# Altium integrated library Maxim Interface Display Driver.IntLib: 28 symbols
Pins are listed as number, name and electrical type; pins without a type are passive.

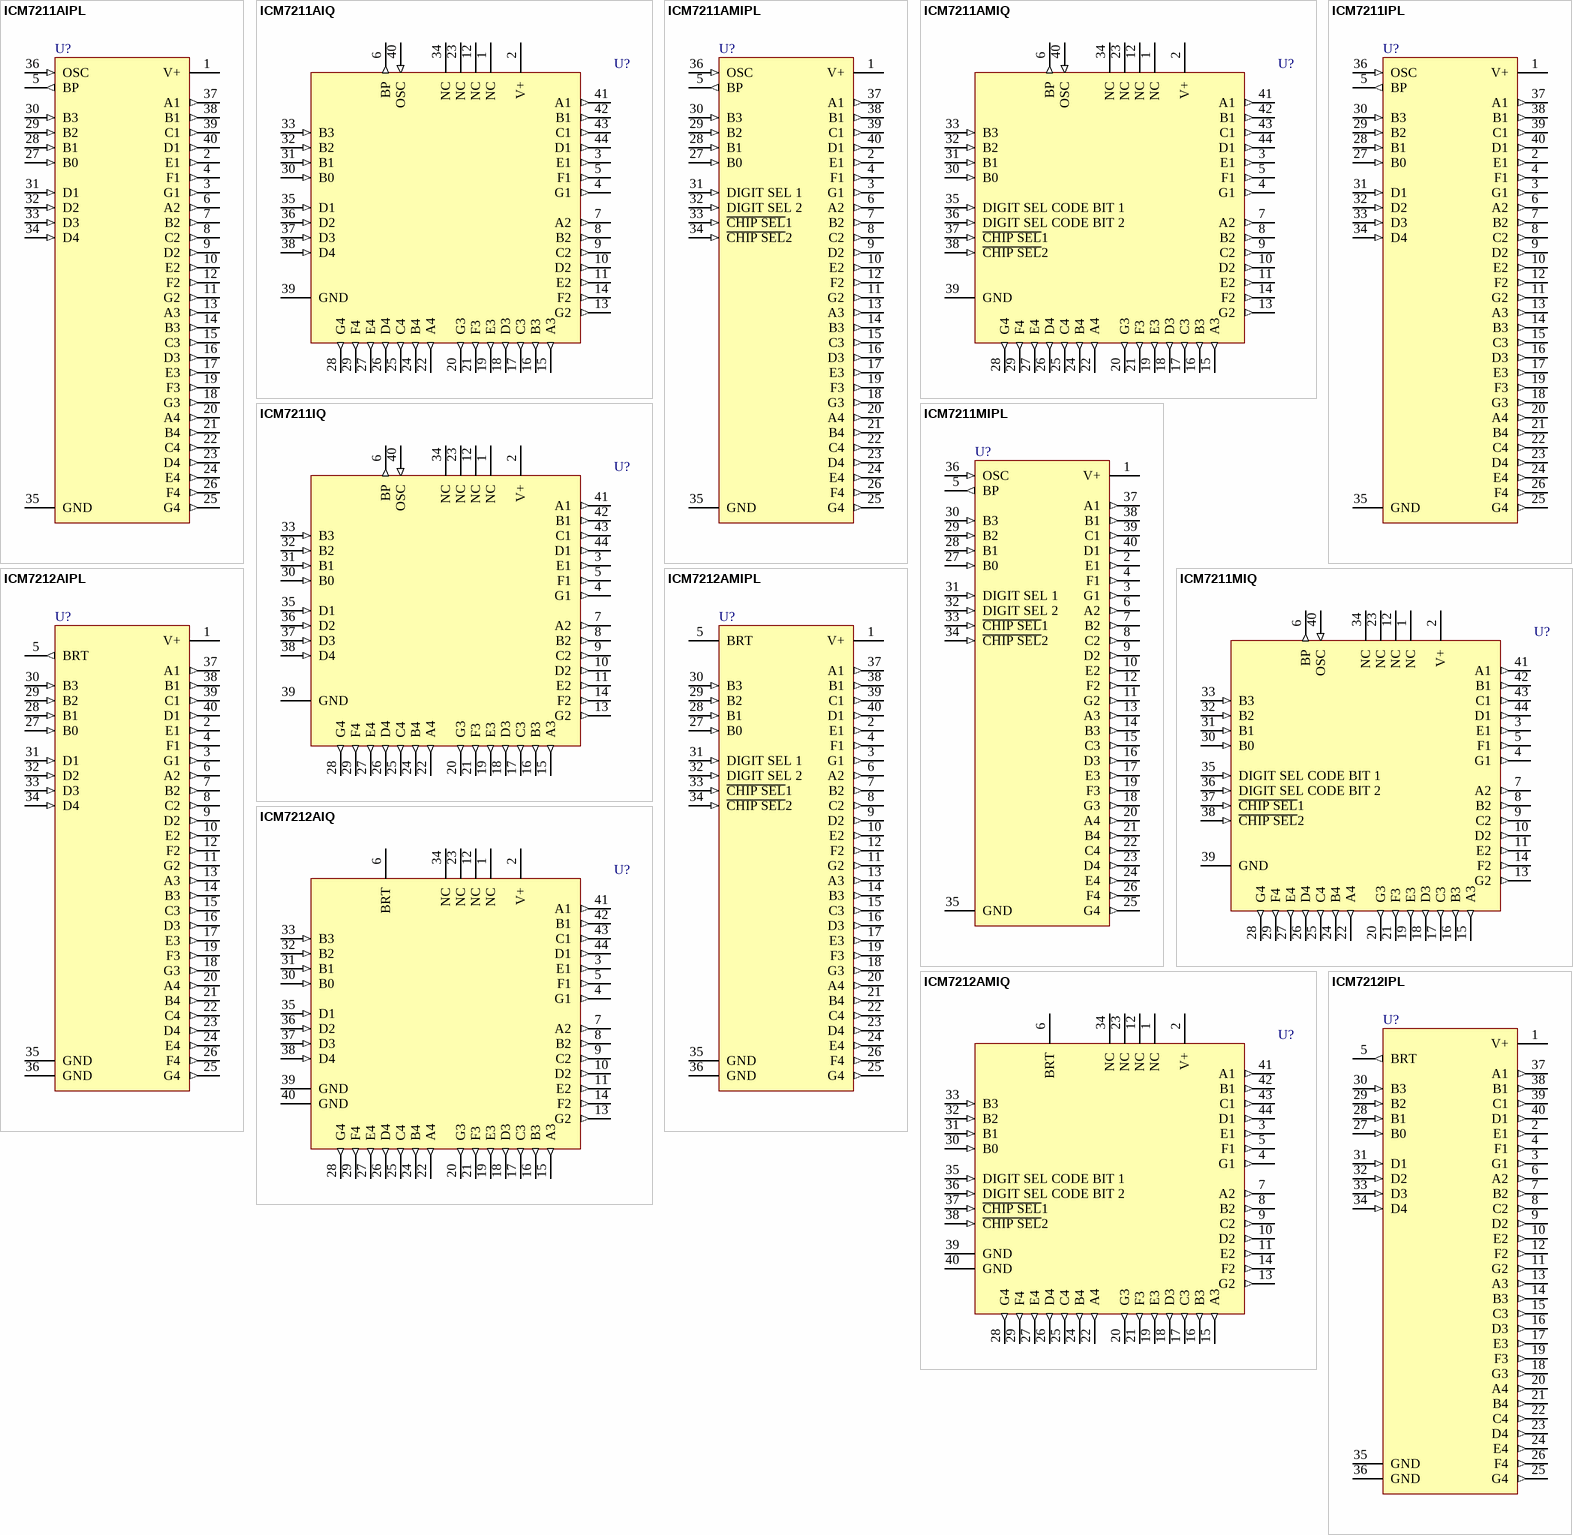
[diagram p0: symbols ICM7211AIPL to ICM7212IPL]

## ICM7211AIPL
designator U?
Four Digit Display Decoder/Driver; Published: 16-Jan-2001; LatestRevisionDate: 29-May-2009; LatestRevisionNote: Component Body Added.; DatasheetVersion: Nov-1989; PackageVersion: RevA, 21-0044; PackageReference: PL40; Publisher: Altium Limited; PackageDescription: DIP, 40-Pin, Row Spacing 15.24 mm, Pitch 2.54 mm; ComponentLink1Description: Manufacturer Link; ComponentLink1URL: http://www.maxim-ic.com/; ComponentLink2Description: Datasheet; ComponentLink2URL: http://pdfserv.maxim-ic.com/en/ds/ICM7211-ICM7212.pdf
footprint PL40 (DIP, 40-Leads, Row Spacing 15.24mm, Pitch 2.54mm, Body 52.08x13.98mm)
3D model PL40 (DIP, 40-Pin, Row Spacing 15.24 mm, Pitch 2.54 mm)
pins: 1 V+ (power), 2 E1 (out), 3 G1 (out), 4 F1 (out), 5 BP (out), 6 A2 (out), 7 B2 (out), 8 C2 (out), 9 D2 (out), 10 E2 (out), 11 G2 (out), 12 F2 (out), 13 A3 (out), 14 B3 (out), 15 C3 (out), 16 D3 (out), 17 E3 (out), 18 G3 (out), 19 F3 (out), 20 A4 (out), 21 B4 (out), 22 C4 (out), 23 D4 (out), 24 E4 (out), 25 G4 (out), 26 F4 (out), 27 B0 (in), 28 B1 (in), 29 B2 (in), 30 B3 (in), 31 D1 (in), 32 D2 (in), 33 D3 (in), 34 D4 (in), 35 GND (power), 36 OSC (in), 37 A1 (out), 38 B1 (out), 39 C1 (out), 40 D1 (out)

## ICM7211AIQ
designator U?
Four Digit Display Decoder/Driver; Published: 16-Jan-2001; LatestRevisionDate: 13-Apr-2006; LatestRevisionNote: IPC-7351 Footprint Added.; DatasheetVersion: Nov-1989; PackageReference: PLCC44; Publisher: Altium Limited; PackageDescription: 44-Pin Leaded Chip Carrier 1.27 mm Pitch; Code_IPC: PLCC-44; ComponentLink1Description: Manufacturer Link; ComponentLink1URL: http://www.maxim-ic.com/; ComponentLink2Description: Datasheet; ComponentLink2URL: http://pdfserv.maxim-ic.com/en/ds/ICM7211-ICM7212.pdf
footprint PLCC44_N (Leaded Chip Carrier, 44-Leads, Body 16.6x16.6mm, Pitch 1.27mm, IPC Medium Density)
footprint PLCC44_L (Leaded Chip Carrier, 44-Leads, Body 16.6x16.6mm, Pitch 1.27mm, IPC High Density)
footprint PLCC44_M (Leaded Chip Carrier, 44-Leads, Body 16.6x16.6mm, Pitch 1.27mm, IPC Low Density)
3D model ICM7211-PLCC44 (44-Pin Leaded Chip Carrier 1.27 mm Pitch)
pins: 1 NC, 2 V+ (power), 3 E1 (out), 4 G1 (out), 5 F1 (out), 6 BP (out), 7 A2 (out), 8 B2 (out), 9 C2 (out), 10 D2 (out), 11 E2 (out), 12 NC, 13 G2 (out), 14 F2 (out), 15 A3 (out), 16 B3 (out), 17 C3 (out), 18 D3 (out), 19 E3 (out), 20 G3 (out), 21 F3 (out), 22 A4 (out), 23 NC, 24 B4 (out), 25 C4 (out), 26 D4 (out), 27 E4 (out), 28 G4 (out), 29 F4 (out), 30 B0 (in), 31 B1 (in), 32 B2 (in), 33 B3 (in), 34 NC, 35 D1 (in), 36 D2 (in), 37 D3 (in), 38 D4 (in), 39 GND (power), 40 OSC (in), 41 A1 (out), 42 B1 (out), 43 C1 (out), 44 D1 (out)

## ICM7211AMIPL
designator U?
Four Digit Display Decoder/Driver; Published: 16-Jan-2001; LatestRevisionDate: 29-May-2009; LatestRevisionNote: Component Body Added.; DatasheetVersion: Nov-1989; PackageVersion: RevA, 21-0044; PackageReference: PL40; Publisher: Altium Limited; PackageDescription: DIP, 40-Pin, Row Spacing 15.24 mm, Pitch 2.54 mm; ComponentLink1Description: Manufacturer Link; ComponentLink1URL: http://www.maxim-ic.com/; ComponentLink2Description: Datasheet; ComponentLink2URL: http://pdfserv.maxim-ic.com/en/ds/ICM7211-ICM7212.pdf
footprint PL40 (DIP, 40-Leads, Row Spacing 15.24mm, Pitch 2.54mm, Body 52.08x13.98mm)
3D model PL40 (DIP, 40-Pin, Row Spacing 15.24 mm, Pitch 2.54 mm)
pins: 1 V+ (power), 2 E1 (out), 3 G1 (out), 4 F1 (out), 5 BP (out), 6 A2 (out), 7 B2 (out), 8 C2 (out), 9 D2 (out), 10 E2 (out), 11 G2 (out), 12 F2 (out), 13 A3 (out), 14 B3 (out), 15 C3 (out), 16 D3 (out), 17 E3 (out), 18 G3 (out), 19 F3 (out), 20 A4 (out), 21 B4 (out), 22 C4 (out), 23 D4 (out), 24 E4 (out), 25 G4 (out), 26 F4 (out), 27 B0 (in), 28 B1 (in), 29 B2 (in), 30 B3 (in), 31 DIGIT SEL 1 (in), 32 DIGIT SEL 2 (in), 33 ~{CHIP SEL}1 (in), 34 ~{CHIP SEL}2 (in), 35 GND (power), 36 OSC (in), 37 A1 (out), 38 B1 (out), 39 C1 (out), 40 D1 (out)

## ICM7211AMIQ
designator U?
Four Digit Display Decoder/Driver; Published: 16-Jan-2001; LatestRevisionDate: 13-Apr-2006; LatestRevisionNote: IPC-7351 Footprint Added.; DatasheetVersion: Nov-1989; PackageReference: PLCC44; Publisher: Altium Limited; PackageDescription: 44-Pin Leaded Chip Carrier 1.27 mm Pitch; Code_IPC: PLCC-44; ComponentLink1Description: Manufacturer Link; ComponentLink1URL: http://www.maxim-ic.com/; ComponentLink2Description: Datasheet; ComponentLink2URL: http://pdfserv.maxim-ic.com/en/ds/ICM7211-ICM7212.pdf
footprint PLCC44_N (Leaded Chip Carrier, 44-Leads, Body 16.6x16.6mm, Pitch 1.27mm, IPC Medium Density)
footprint PLCC44_L (Leaded Chip Carrier, 44-Leads, Body 16.6x16.6mm, Pitch 1.27mm, IPC High Density)
footprint PLCC44_M (Leaded Chip Carrier, 44-Leads, Body 16.6x16.6mm, Pitch 1.27mm, IPC Low Density)
3D model ICM7211-PLCC44 (44-Pin Leaded Chip Carrier 1.27 mm Pitch)
pins: 1 NC, 2 V+ (power), 3 E1 (out), 4 G1 (out), 5 F1 (out), 6 BP (out), 7 A2 (out), 8 B2 (out), 9 C2 (out), 10 D2 (out), 11 E2 (out), 12 NC, 13 G2 (out), 14 F2 (out), 15 A3 (out), 16 B3 (out), 17 C3 (out), 18 D3 (out), 19 E3 (out), 20 G3 (out), 21 F3 (out), 22 A4 (out), 23 NC, 24 B4 (out), 25 C4 (out), 26 D4 (out), 27 E4 (out), 28 G4 (out), 29 F4 (out), 30 B0 (in), 31 B1 (in), 32 B2 (in), 33 B3 (in), 34 NC, 35 DIGIT SEL CODE BIT 1 (in), 36 DIGIT SEL CODE BIT 2 (in), 37 ~{CHIP SEL}1 (in), 38 ~{CHIP SEL}2 (in), 39 GND (power), 40 OSC (in), 41 A1 (out), 42 B1 (out), 43 C1 (out), 44 D1 (out)

## ICM7211IPL
designator U?
Four Digit Display Decoder/Driver; Published: 16-Jan-2001; LatestRevisionDate: 29-May-2009; LatestRevisionNote: Component Body Added.; DatasheetVersion: Nov-1989; PackageVersion: RevA, 21-0044; PackageReference: PL40; Publisher: Altium Limited; PackageDescription: DIP, 40-Pin, Row Spacing 15.24 mm, Pitch 2.54 mm; ComponentLink1Description: Manufacturer Link; ComponentLink1URL: http://www.maxim-ic.com/; ComponentLink2Description: Datasheet; ComponentLink2URL: http://pdfserv.maxim-ic.com/en/ds/ICM7211-ICM7212.pdf
footprint PL40 (DIP, 40-Leads, Row Spacing 15.24mm, Pitch 2.54mm, Body 52.08x13.98mm)
3D model PL40 (DIP, 40-Pin, Row Spacing 15.24 mm, Pitch 2.54 mm)
pins: 1 V+ (power), 2 E1 (out), 3 G1 (out), 4 F1 (out), 5 BP (out), 6 A2 (out), 7 B2 (out), 8 C2 (out), 9 D2 (out), 10 E2 (out), 11 G2 (out), 12 F2 (out), 13 A3 (out), 14 B3 (out), 15 C3 (out), 16 D3 (out), 17 E3 (out), 18 G3 (out), 19 F3 (out), 20 A4 (out), 21 B4 (out), 22 C4 (out), 23 D4 (out), 24 E4 (out), 25 G4 (out), 26 F4 (out), 27 B0 (in), 28 B1 (in), 29 B2 (in), 30 B3 (in), 31 D1 (in), 32 D2 (in), 33 D3 (in), 34 D4 (in), 35 GND (power), 36 OSC (in), 37 A1 (out), 38 B1 (out), 39 C1 (out), 40 D1 (out)

## ICM7211IQ
designator U?
Four Digit Display Decoder/Driver; Published: 16-Jan-2001; LatestRevisionDate: 13-Apr-2006; LatestRevisionNote: IPC-7351 Footprint Added.; DatasheetVersion: Nov-1989; PackageReference: PLCC44; Publisher: Altium Limited; PackageDescription: 44-Pin Leaded Chip Carrier 1.27 mm Pitch; Code_IPC: PLCC-44; ComponentLink1Description: Manufacturer Link; ComponentLink1URL: http://www.maxim-ic.com/; ComponentLink2Description: Datasheet; ComponentLink2URL: http://pdfserv.maxim-ic.com/en/ds/ICM7211-ICM7212.pdf
footprint PLCC44_N (Leaded Chip Carrier, 44-Leads, Body 16.6x16.6mm, Pitch 1.27mm, IPC Medium Density)
footprint PLCC44_L (Leaded Chip Carrier, 44-Leads, Body 16.6x16.6mm, Pitch 1.27mm, IPC High Density)
footprint PLCC44_M (Leaded Chip Carrier, 44-Leads, Body 16.6x16.6mm, Pitch 1.27mm, IPC Low Density)
3D model ICM7211-PLCC44 (44-Pin Leaded Chip Carrier 1.27 mm Pitch)
pins: 1 NC, 2 V+ (power), 3 E1 (out), 4 G1 (out), 5 F1 (out), 6 BP (out), 7 A2 (out), 8 B2 (out), 9 C2 (out), 10 D2 (out), 11 E2 (out), 12 NC, 13 G2 (out), 14 F2 (out), 15 A3 (out), 16 B3 (out), 17 C3 (out), 18 D3 (out), 19 E3 (out), 20 G3 (out), 21 F3 (out), 22 A4 (out), 23 NC, 24 B4 (out), 25 C4 (out), 26 D4 (out), 27 E4 (out), 28 G4 (out), 29 F4 (out), 30 B0 (in), 31 B1 (in), 32 B2 (in), 33 B3 (in), 34 NC, 35 D1 (in), 36 D2 (in), 37 D3 (in), 38 D4 (in), 39 GND (power), 40 OSC (in), 41 A1 (out), 42 B1 (out), 43 C1 (out), 44 D1 (out)

## ICM7211MIPL
designator U?
Four Digit Display Decoder/Driver; Published: 16-Jan-2001; LatestRevisionDate: 29-May-2009; LatestRevisionNote: Component Body Added.; DatasheetVersion: Nov-1989; PackageVersion: RevA, 21-0044; PackageReference: PL40; Publisher: Altium Limited; PackageDescription: DIP, 40-Pin, Row Spacing 15.24 mm, Pitch 2.54 mm; ComponentLink1Description: Manufacturer Link; ComponentLink1URL: http://www.maxim-ic.com/; ComponentLink2Description: Datasheet; ComponentLink2URL: http://pdfserv.maxim-ic.com/en/ds/ICM7211-ICM7212.pdf
footprint PL40 (DIP, 40-Leads, Row Spacing 15.24mm, Pitch 2.54mm, Body 52.08x13.98mm)
3D model PL40 (DIP, 40-Pin, Row Spacing 15.24 mm, Pitch 2.54 mm)
pins: 1 V+ (power), 2 E1 (out), 3 G1 (out), 4 F1 (out), 5 BP (out), 6 A2 (out), 7 B2 (out), 8 C2 (out), 9 D2 (out), 10 E2 (out), 11 G2 (out), 12 F2 (out), 13 A3 (out), 14 B3 (out), 15 C3 (out), 16 D3 (out), 17 E3 (out), 18 G3 (out), 19 F3 (out), 20 A4 (out), 21 B4 (out), 22 C4 (out), 23 D4 (out), 24 E4 (out), 25 G4 (out), 26 F4 (out), 27 B0 (in), 28 B1 (in), 29 B2 (in), 30 B3 (in), 31 DIGIT SEL 1 (in), 32 DIGIT SEL 2 (in), 33 ~{CHIP SEL}1 (in), 34 ~{CHIP SEL}2 (in), 35 GND (power), 36 OSC (in), 37 A1 (out), 38 B1 (out), 39 C1 (out), 40 D1 (out)

## ICM7211MIQ
designator U?
Four Digit Display Decoder/Driver; Published: 16-Jan-2001; LatestRevisionDate: 13-Apr-2006; LatestRevisionNote: IPC-7351 Footprint Added.; DatasheetVersion: Nov-1989; PackageReference: PLCC44; Publisher: Altium Limited; PackageDescription: 44-Pin Leaded Chip Carrier 1.27 mm Pitch; Code_IPC: PLCC-44; ComponentLink1Description: Manufacturer Link; ComponentLink1URL: http://www.maxim-ic.com/; ComponentLink2Description: Datasheet; ComponentLink2URL: http://pdfserv.maxim-ic.com/en/ds/ICM7211-ICM7212.pdf
footprint PLCC44_N (Leaded Chip Carrier, 44-Leads, Body 16.6x16.6mm, Pitch 1.27mm, IPC Medium Density)
footprint PLCC44_L (Leaded Chip Carrier, 44-Leads, Body 16.6x16.6mm, Pitch 1.27mm, IPC High Density)
footprint PLCC44_M (Leaded Chip Carrier, 44-Leads, Body 16.6x16.6mm, Pitch 1.27mm, IPC Low Density)
3D model ICM7211-PLCC44 (44-Pin Leaded Chip Carrier 1.27 mm Pitch)
pins: 1 NC, 2 V+ (power), 3 E1 (out), 4 G1 (out), 5 F1 (out), 6 BP (out), 7 A2 (out), 8 B2 (out), 9 C2 (out), 10 D2 (out), 11 E2 (out), 12 NC, 13 G2 (out), 14 F2 (out), 15 A3 (out), 16 B3 (out), 17 C3 (out), 18 D3 (out), 19 E3 (out), 20 G3 (out), 21 F3 (out), 22 A4 (out), 23 NC, 24 B4 (out), 25 C4 (out), 26 D4 (out), 27 E4 (out), 28 G4 (out), 29 F4 (out), 30 B0 (in), 31 B1 (in), 32 B2 (in), 33 B3 (in), 34 NC, 35 DIGIT SEL CODE BIT 1 (in), 36 DIGIT SEL CODE BIT 2 (in), 37 ~{CHIP SEL}1 (in), 38 ~{CHIP SEL}2 (in), 39 GND (power), 40 OSC (in), 41 A1 (out), 42 B1 (out), 43 C1 (out), 44 D1 (out)

## ICM7212AIPL
designator U?
Four Digit Display Decoder/Driver; Published: 16-Jan-2001; LatestRevisionDate: 29-May-2009; LatestRevisionNote: Component Body Added.; DatasheetVersion: Nov-1989; PackageVersion: RevA, 21-0044; PackageReference: PL40; Publisher: Altium Limited; PackageDescription: DIP, 40-Pin, Row Spacing 15.24 mm, Pitch 2.54 mm; ComponentLink1Description: Manufacturer Link; ComponentLink1URL: http://www.maxim-ic.com/; ComponentLink2Description: Datasheet; ComponentLink2URL: http://pdfserv.maxim-ic.com/en/ds/ICM7211-ICM7212.pdf
footprint PL40 (DIP, 40-Leads, Row Spacing 15.24mm, Pitch 2.54mm, Body 52.08x13.98mm)
3D model PL40 (DIP, 40-Pin, Row Spacing 15.24 mm, Pitch 2.54 mm)
pins: 1 V+ (power), 2 E1 (out), 3 G1 (out), 4 F1 (out), 5 BRT (out), 6 A2 (out), 7 B2 (out), 8 C2 (out), 9 D2 (out), 10 E2 (out), 11 G2 (out), 12 F2 (out), 13 A3 (out), 14 B3 (out), 15 C3 (out), 16 D3 (out), 17 E3 (out), 18 G3 (out), 19 F3 (out), 20 A4 (out), 21 B4 (out), 22 C4 (out), 23 D4 (out), 24 E4 (out), 25 G4 (out), 26 F4 (out), 27 B0 (in), 28 B1 (in), 29 B2 (in), 30 B3 (in), 31 D1 (in), 32 D2 (in), 33 D3 (in), 34 D4 (in), 35 GND (power), 36 GND (power), 37 A1 (out), 38 B1 (out), 39 C1 (out), 40 D1 (out)

## ICM7212AIQ
designator U?
Four Digit Display Decoder/Driver; Published: 16-Jan-2001; LatestRevisionDate: 13-Apr-2006; LatestRevisionNote: IPC-7351 Footprint Added.; DatasheetVersion: Nov-1989; PackageReference: PLCC44; Publisher: Altium Limited; PackageDescription: 44-Pin Leaded Chip Carrier 1.27 mm Pitch; Code_IPC: PLCC-44; ComponentLink1Description: Manufacturer Link; ComponentLink1URL: http://www.maxim-ic.com/; ComponentLink2Description: Datasheet; ComponentLink2URL: http://pdfserv.maxim-ic.com/en/ds/ICM7211-ICM7212.pdf
footprint PLCC44_N (Leaded Chip Carrier, 44-Leads, Body 16.6x16.6mm, Pitch 1.27mm, IPC Medium Density)
footprint PLCC44_L (Leaded Chip Carrier, 44-Leads, Body 16.6x16.6mm, Pitch 1.27mm, IPC High Density)
footprint PLCC44_M (Leaded Chip Carrier, 44-Leads, Body 16.6x16.6mm, Pitch 1.27mm, IPC Low Density)
3D model ICM7212-PLCC44 (44-Pin Leaded Chip Carrier 1.27 mm Pitch)
pins: 1 NC, 2 V+ (power), 3 E1 (out), 4 G1 (out), 5 F1 (out), 6 BRT, 7 A2 (out), 8 B2 (out), 9 C2 (out), 10 D2 (out), 11 E2 (out), 12 NC, 13 G2 (out), 14 F2 (out), 15 A3 (out), 16 B3 (out), 17 C3 (out), 18 D3 (out), 19 E3 (out), 20 G3 (out), 21 F3 (out), 22 A4 (out), 23 NC, 24 B4 (out), 25 C4 (out), 26 D4 (out), 27 E4 (out), 28 G4 (out), 29 F4 (out), 30 B0 (in), 31 B1 (in), 32 B2 (in), 33 B3 (in), 34 NC, 35 D1 (in), 36 D2 (in), 37 D3 (in), 38 D4 (in), 39 GND (power), 40 GND (power), 41 A1 (out), 42 B1 (out), 43 C1 (out), 44 D1 (out)

## ICM7212AMIPL
designator U?
Four Digit Display Decoder/Driver; Published: 16-Jan-2001; LatestRevisionDate: 29-May-2009; LatestRevisionNote: Component Body Added.; DatasheetVersion: Nov-1989; PackageVersion: RevA, 21-0044; PackageReference: PL40; Publisher: Altium Limited; PackageDescription: DIP, 40-Pin, Row Spacing 15.24 mm, Pitch 2.54 mm; ComponentLink1Description: Manufacturer Link; ComponentLink1URL: http://www.maxim-ic.com/; ComponentLink2Description: Datasheet; ComponentLink2URL: http://pdfserv.maxim-ic.com/en/ds/ICM7211-ICM7212.pdf
footprint PL40 (DIP, 40-Leads, Row Spacing 15.24mm, Pitch 2.54mm, Body 52.08x13.98mm)
3D model PL40 (DIP, 40-Pin, Row Spacing 15.24 mm, Pitch 2.54 mm)
pins: 1 V+ (power), 2 E1 (out), 3 G1 (out), 4 F1 (out), 5 BRT, 6 A2 (out), 7 B2 (out), 8 C2 (out), 9 D2 (out), 10 E2 (out), 11 G2 (out), 12 F2 (out), 13 A3 (out), 14 B3 (out), 15 C3 (out), 16 D3 (out), 17 E3 (out), 18 G3 (out), 19 F3 (out), 20 A4 (out), 21 B4 (out), 22 C4 (out), 23 D4 (out), 24 E4 (out), 25 G4 (out), 26 F4 (out), 27 B0 (in), 28 B1 (in), 29 B2 (in), 30 B3 (in), 31 DIGIT SEL 1 (in), 32 DIGIT SEL 2 (in), 33 ~{CHIP SEL}1 (in), 34 ~{CHIP SEL}2 (in), 35 GND (power), 36 GND (power), 37 A1 (out), 38 B1 (out), 39 C1 (out), 40 D1 (out)

## ICM7212AMIQ
designator U?
Four Digit Display Decoder/Driver; Published: 16-Jan-2001; LatestRevisionDate: 13-Apr-2006; LatestRevisionNote: IPC-7351 Footprint Added.; DatasheetVersion: Nov-1989; PackageReference: PLCC44; Publisher: Altium Limited; PackageDescription: 44-Pin Leaded Chip Carrier 1.27 mm Pitch; Code_IPC: PLCC-44; ComponentLink1Description: Manufacturer Link; ComponentLink1URL: http://www.maxim-ic.com/; ComponentLink2Description: Datasheet; ComponentLink2URL: http://pdfserv.maxim-ic.com/en/ds/ICM7211-ICM7212.pdf
footprint PLCC44_N (Leaded Chip Carrier, 44-Leads, Body 16.6x16.6mm, Pitch 1.27mm, IPC Medium Density)
footprint PLCC44_L (Leaded Chip Carrier, 44-Leads, Body 16.6x16.6mm, Pitch 1.27mm, IPC High Density)
footprint PLCC44_M (Leaded Chip Carrier, 44-Leads, Body 16.6x16.6mm, Pitch 1.27mm, IPC Low Density)
3D model ICM7212-PLCC44 (44-Pin Leaded Chip Carrier 1.27 mm Pitch)
pins: 1 NC, 2 V+ (power), 3 E1 (out), 4 G1 (out), 5 F1 (out), 6 BRT, 7 A2 (out), 8 B2 (out), 9 C2 (out), 10 D2 (out), 11 E2 (out), 12 NC, 13 G2 (out), 14 F2 (out), 15 A3 (out), 16 B3 (out), 17 C3 (out), 18 D3 (out), 19 E3 (out), 20 G3 (out), 21 F3 (out), 22 A4 (out), 23 NC, 24 B4 (out), 25 C4 (out), 26 D4 (out), 27 E4 (out), 28 G4 (out), 29 F4 (out), 30 B0 (in), 31 B1 (in), 32 B2 (in), 33 B3 (in), 34 NC, 35 DIGIT SEL CODE BIT 1 (in), 36 DIGIT SEL CODE BIT 2 (in), 37 ~{CHIP SEL}1 (in), 38 ~{CHIP SEL}2 (in), 39 GND (power), 40 GND (power), 41 A1 (out), 42 B1 (out), 43 C1 (out), 44 D1 (out)

## ICM7212IPL
designator U?
Four Digit Display Decoder/Driver; Published: 16-Jan-2001; LatestRevisionDate: 29-May-2009; LatestRevisionNote: Component Body Added.; DatasheetVersion: Nov-1989; PackageVersion: RevA, 21-0044; PackageReference: PL40; Publisher: Altium Limited; PackageDescription: DIP, 40-Pin, Row Spacing 15.24 mm, Pitch 2.54 mm; ComponentLink1Description: Manufacturer Link; ComponentLink1URL: http://www.maxim-ic.com/; ComponentLink2Description: Datasheet; ComponentLink2URL: http://pdfserv.maxim-ic.com/en/ds/ICM7211-ICM7212.pdf
footprint PL40 (DIP, 40-Leads, Row Spacing 15.24mm, Pitch 2.54mm, Body 52.08x13.98mm)
3D model PL40 (DIP, 40-Pin, Row Spacing 15.24 mm, Pitch 2.54 mm)
pins: 1 V+ (power), 2 E1 (out), 3 G1 (out), 4 F1 (out), 5 BRT (out), 6 A2 (out), 7 B2 (out), 8 C2 (out), 9 D2 (out), 10 E2 (out), 11 G2 (out), 12 F2 (out), 13 A3 (out), 14 B3 (out), 15 C3 (out), 16 D3 (out), 17 E3 (out), 18 G3 (out), 19 F3 (out), 20 A4 (out), 21 B4 (out), 22 C4 (out), 23 D4 (out), 24 E4 (out), 25 G4 (out), 26 F4 (out), 27 B0 (in), 28 B1 (in), 29 B2 (in), 30 B3 (in), 31 D1 (in), 32 D2 (in), 33 D3 (in), 34 D4 (in), 35 GND (power), 36 GND (power), 37 A1 (out), 38 B1 (out), 39 C1 (out), 40 D1 (out)

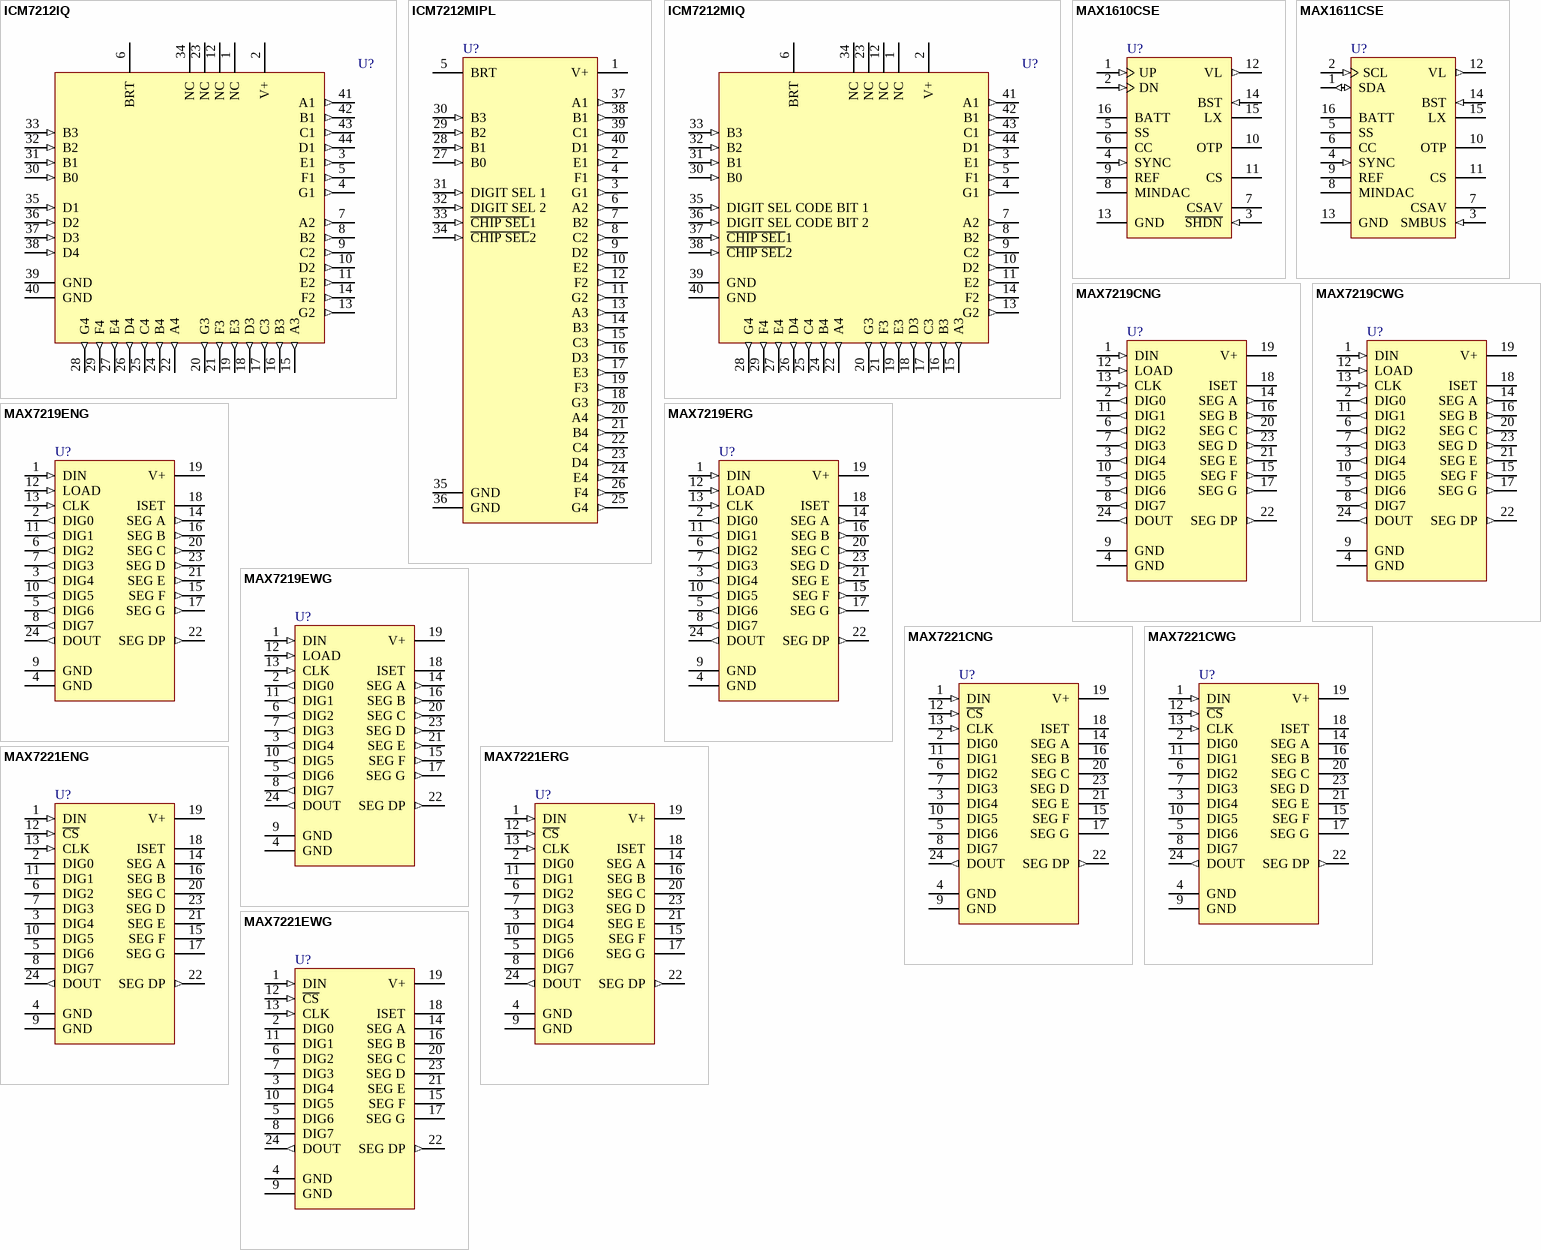
[diagram p1: symbols ICM7212IQ to MAX7221EWG]

## ICM7212IQ
designator U?
Four Digit Display Decoder/Driver; Published: 16-Jan-2001; LatestRevisionDate: 13-Apr-2006; LatestRevisionNote: IPC-7351 Footprint Added.; DatasheetVersion: Nov-1989; PackageReference: PLCC44; Publisher: Altium Limited; PackageDescription: 44-Pin Leaded Chip Carrier 1.27 mm Pitch; Code_IPC: PLCC-44; ComponentLink1Description: Manufacturer Link; ComponentLink1URL: http://www.maxim-ic.com/; ComponentLink2Description: Datasheet; ComponentLink2URL: http://pdfserv.maxim-ic.com/en/ds/ICM7211-ICM7212.pdf
footprint PLCC44_N (Leaded Chip Carrier, 44-Leads, Body 16.6x16.6mm, Pitch 1.27mm, IPC Medium Density)
footprint PLCC44_L (Leaded Chip Carrier, 44-Leads, Body 16.6x16.6mm, Pitch 1.27mm, IPC High Density)
footprint PLCC44_M (Leaded Chip Carrier, 44-Leads, Body 16.6x16.6mm, Pitch 1.27mm, IPC Low Density)
3D model ICM7212-PLCC44 (44-Pin Leaded Chip Carrier 1.27 mm Pitch)
pins: 1 NC, 2 V+ (power), 3 E1 (out), 4 G1 (out), 5 F1 (out), 6 BRT, 7 A2 (out), 8 B2 (out), 9 C2 (out), 10 D2 (out), 11 E2 (out), 12 NC, 13 G2 (out), 14 F2 (out), 15 A3 (out), 16 B3 (out), 17 C3 (out), 18 D3 (out), 19 E3 (out), 20 G3 (out), 21 F3 (out), 22 A4 (out), 23 NC, 24 B4 (out), 25 C4 (out), 26 D4 (out), 27 E4 (out), 28 G4 (out), 29 F4 (out), 30 B0 (in), 31 B1 (in), 32 B2 (in), 33 B3 (in), 34 NC, 35 D1 (in), 36 D2 (in), 37 D3 (in), 38 D4 (in), 39 GND (power), 40 GND (power), 41 A1 (out), 42 B1 (out), 43 C1 (out), 44 D1 (out)

## ICM7212MIPL
designator U?
Four Digit Display Decoder/Driver; Published: 16-Jan-2001; LatestRevisionDate: 29-May-2009; LatestRevisionNote: Component Body Added.; DatasheetVersion: Nov-1989; PackageVersion: RevA, 21-0044; PackageReference: PL40; Publisher: Altium Limited; PackageDescription: DIP, 40-Pin, Row Spacing 15.24 mm, Pitch 2.54 mm; ComponentLink1Description: Manufacturer Link; ComponentLink1URL: http://www.maxim-ic.com/; ComponentLink2Description: Datasheet; ComponentLink2URL: http://pdfserv.maxim-ic.com/en/ds/ICM7211-ICM7212.pdf
footprint PL40 (DIP, 40-Leads, Row Spacing 15.24mm, Pitch 2.54mm, Body 52.08x13.98mm)
3D model PL40 (DIP, 40-Pin, Row Spacing 15.24 mm, Pitch 2.54 mm)
pins: 1 V+ (power), 2 E1 (out), 3 G1 (out), 4 F1 (out), 5 BRT, 6 A2 (out), 7 B2 (out), 8 C2 (out), 9 D2 (out), 10 E2 (out), 11 G2 (out), 12 F2 (out), 13 A3 (out), 14 B3 (out), 15 C3 (out), 16 D3 (out), 17 E3 (out), 18 G3 (out), 19 F3 (out), 20 A4 (out), 21 B4 (out), 22 C4 (out), 23 D4 (out), 24 E4 (out), 25 G4 (out), 26 F4 (out), 27 B0 (in), 28 B1 (in), 29 B2 (in), 30 B3 (in), 31 DIGIT SEL 1 (in), 32 DIGIT SEL 2 (in), 33 ~{CHIP SEL}1 (in), 34 ~{CHIP SEL}2 (in), 35 GND (power), 36 GND (power), 37 A1 (out), 38 B1 (out), 39 C1 (out), 40 D1 (out)

## ICM7212MIQ
designator U?
Four Digit Display Decoder/Driver; Published: 16-Jan-2001; LatestRevisionDate: 13-Apr-2006; LatestRevisionNote: IPC-7351 Footprint Added.; DatasheetVersion: Nov-1989; PackageReference: PLCC44; Publisher: Altium Limited; PackageDescription: 44-Pin Leaded Chip Carrier 1.27 mm Pitch; Code_IPC: PLCC-44; ComponentLink1Description: Manufacturer Link; ComponentLink1URL: http://www.maxim-ic.com/; ComponentLink2Description: Datasheet; ComponentLink2URL: http://pdfserv.maxim-ic.com/en/ds/ICM7211-ICM7212.pdf
footprint PLCC44_N (Leaded Chip Carrier, 44-Leads, Body 16.6x16.6mm, Pitch 1.27mm, IPC Medium Density)
footprint PLCC44_L (Leaded Chip Carrier, 44-Leads, Body 16.6x16.6mm, Pitch 1.27mm, IPC High Density)
footprint PLCC44_M (Leaded Chip Carrier, 44-Leads, Body 16.6x16.6mm, Pitch 1.27mm, IPC Low Density)
3D model ICM7212-PLCC44 (44-Pin Leaded Chip Carrier 1.27 mm Pitch)
pins: 1 NC, 2 V+ (power), 3 E1 (out), 4 G1 (out), 5 F1 (out), 6 BRT, 7 A2 (out), 8 B2 (out), 9 C2 (out), 10 D2 (out), 11 E2 (out), 12 NC, 13 G2 (out), 14 F2 (out), 15 A3 (out), 16 B3 (out), 17 C3 (out), 18 D3 (out), 19 E3 (out), 20 G3 (out), 21 F3 (out), 22 A4 (out), 23 NC, 24 B4 (out), 25 C4 (out), 26 D4 (out), 27 E4 (out), 28 G4 (out), 29 F4 (out), 30 B0 (in), 31 B1 (in), 32 B2 (in), 33 B3 (in), 34 NC, 35 DIGIT SEL CODE BIT 1 (in), 36 DIGIT SEL CODE BIT 2 (in), 37 ~{CHIP SEL}1 (in), 38 ~{CHIP SEL}2 (in), 39 GND (power), 40 GND (power), 41 A1 (out), 42 B1 (out), 43 C1 (out), 44 D1 (out)

## MAX1610CSE
designator U?
Digitally Controlled CCFL Backlight Power Supplies; Published: 16-Jan-2001; LatestRevisionDate: 13-Apr-2006; LatestRevisionNote: IPC-7351 Footprint Added.; DatasheetVersion: Sep-1996; PackageReference: NSO16; Publisher: Altium Limited; PackageDescription: 16-Pin Small Outline Integrated Circuit 1.27 mm Pitch; Code_JEDEC: MS-012-AC; Code_IPC: SOIC127P600-16; ComponentLink1Description: Manufacturer Link; ComponentLink1URL: http://www.maxim-ic.com/; ComponentLink2Description: Datasheet; ComponentLink2URL: http://pdfserv.maxim-ic.com/en/ds/MAX1610-MAX1611.pdf
footprint NSO16_N (SOIC, 16-Leads, Body 9.9x3.9mm, Pitch 1.27mm, IPC Medium Density)
footprint NSO16_L (SOIC, 16-Leads, Body 9.9x3.9mm, Pitch 1.27mm, IPC High Density)
footprint NSO16_M (SOIC, 16-Leads, Body 9.9x3.9mm, Pitch 1.27mm, IPC Low Density)
3D model NSO16 (16-Pin Small Outline Integrated Circuit 1.27 mm Pitch)
pins: 1 UP (in), 2 DN (in), 3 ~{SHDN} (in), 4 SYNC (in), 5 SS, 6 CC, 7 CSAV, 8 MINDAC, 9 REF, 10 OTP, 11 CS, 12 VL (out), 13 GND (power), 14 BST (in), 15 LX, 16 BATT

## MAX1611CSE
designator U?
Digitally Controlled CCFL Backlight Power Supplies; Published: 16-Jan-2001; LatestRevisionDate: 13-Apr-2006; LatestRevisionNote: IPC-7351 Footprint Added.; DatasheetVersion: Sep-1996; PackageReference: NSO16; Publisher: Altium Limited; PackageDescription: 16-Pin Small Outline Integrated Circuit 1.27 mm Pitch; Code_JEDEC: MS-012-AC; Code_IPC: SOIC127P600-16; ComponentLink1Description: Manufacturer Link; ComponentLink1URL: http://www.maxim-ic.com/; ComponentLink2Description: Datasheet; ComponentLink2URL: http://pdfserv.maxim-ic.com/en/ds/MAX1610-MAX1611.pdf
footprint NSO16_N (SOIC, 16-Leads, Body 9.9x3.9mm, Pitch 1.27mm, IPC Medium Density)
footprint NSO16_L (SOIC, 16-Leads, Body 9.9x3.9mm, Pitch 1.27mm, IPC High Density)
footprint NSO16_M (SOIC, 16-Leads, Body 9.9x3.9mm, Pitch 1.27mm, IPC Low Density)
3D model NSO16 (16-Pin Small Outline Integrated Circuit 1.27 mm Pitch)
pins: 1 SDA (io), 2 SCL (in), 3 SMBUS (in), 4 SYNC (in), 5 SS, 6 CC, 7 CSAV, 8 MINDAC, 9 REF, 10 OTP, 11 CS, 12 VL (out), 13 GND (power), 14 BST (in), 15 LX, 16 BATT

## MAX7219CNG
designator U?
Serially Interfaced, 8-Digit LED Display Driver; Published: 16-Jan-2001; LatestRevisionDate: 29-May-2009; LatestRevisionNote: Component Body Added.; DatasheetVersion: Jul-1997; PackageVersion: 1997; PackageReference: NG24A; Publisher: Altium Limited; PackageDescription: DIP, 24-Pin, Row Spacing 7.62 mm, Pitch 2.54 mm; Code_JEDEC: MS-001-AF; ComponentLink1Description: Manufacturer Link; ComponentLink1URL: http://www.maxim-ic.com/; ComponentLink2Description: Datasheet; ComponentLink2URL: http://pdfserv.maxim-ic.com/en/ds/MAX7219-MAX7221.pdf
footprint NG24A (DIP, 24-Leads, Row Spacing 7.62mm, Pitch 2.54mm, Body 30.55x6.99mm)
3D model NG24 (DIP, 24-Pin, Row Spacing 7.62 mm, Pitch 2.54 mm)
pins: 1 DIN (in), 2 DIG0 (out), 3 DIG4 (out), 4 GND (power), 5 DIG6 (out), 6 DIG2 (out), 7 DIG3 (out), 8 DIG7 (out), 9 GND (power), 10 DIG5 (out), 11 DIG1 (out), 12 LOAD (in), 13 CLK (in), 14 SEG A (out), 15 SEG F (out), 16 SEG B (out), 17 SEG G (out), 18 ISET, 19 V+ (power), 20 SEG C (out), 21 SEG E (out), 22 SEG DP (out), 23 SEG D (out), 24 DOUT (out)

## MAX7219CWG
designator U?
Serially Interfaced, 8-Digit LED Display Driver; Published: 16-Jan-2001; LatestRevisionDate: 13-Apr-2006; LatestRevisionNote: IPC-7351 Footprint Added.; DatasheetVersion: Jul-1997; PackageReference: WSO24; Publisher: Altium Limited; PackageDescription: 24-Pin Small Outline Integrated Circuit 1.27 mm Pitch; ComponentLink1Description: Manufacturer Link; ComponentLink1URL: http://www.maxim-ic.com/; ComponentLink2Description: Datasheet; ComponentLink2URL: http://pdfserv.maxim-ic.com/en/ds/MAX7219-MAX7221.pdf
footprint WSO24_N (SOIC, 24-Leads, Body 15.4x7.5mm, Pitch 1.27mm, IPC Medium Density)
footprint WSO24_L (SOIC, 24-Leads, Body 15.4x7.5mm, Pitch 1.27mm, IPC High Density)
footprint WSO24_M (SOIC, 24-Leads, Body 15.4x7.5mm, Pitch 1.27mm, IPC Low Density)
3D model WSO24 (24-Pin Small Outline Integrated Circuit 1.27 mm Pitch)
pins: 1 DIN (in), 2 DIG0 (out), 3 DIG4 (out), 4 GND (power), 5 DIG6 (out), 6 DIG2 (out), 7 DIG3 (out), 8 DIG7 (out), 9 GND (power), 10 DIG5 (out), 11 DIG1 (out), 12 LOAD (in), 13 CLK (in), 14 SEG A (out), 15 SEG F (out), 16 SEG B (out), 17 SEG G (out), 18 ISET, 19 V+ (power), 20 SEG C (out), 21 SEG E (out), 22 SEG DP (out), 23 SEG D (out), 24 DOUT (out)

## MAX7219ENG
designator U?
Serially Interfaced, 8-Digit LED Display Driver; Published: 16-Jan-2001; LatestRevisionDate: 29-May-2009; LatestRevisionNote: Component Body Added.; DatasheetVersion: Jul-1997; PackageVersion: 1997; PackageReference: NG24A; Publisher: Altium Limited; PackageDescription: DIP, 24-Pin, Row Spacing 7.62 mm, Pitch 2.54 mm; Code_JEDEC: MS-001-AF; ComponentLink1Description: Manufacturer Link; ComponentLink1URL: http://www.maxim-ic.com/; ComponentLink2Description: Datasheet; ComponentLink2URL: http://pdfserv.maxim-ic.com/en/ds/MAX7219-MAX7221.pdf
footprint NG24A (DIP, 24-Leads, Row Spacing 7.62mm, Pitch 2.54mm, Body 30.55x6.99mm)
3D model NG24 (DIP, 24-Pin, Row Spacing 7.62 mm, Pitch 2.54 mm)
pins: 1 DIN (in), 2 DIG0 (out), 3 DIG4 (out), 4 GND (power), 5 DIG6 (out), 6 DIG2 (out), 7 DIG3 (out), 8 DIG7 (out), 9 GND (power), 10 DIG5 (out), 11 DIG1 (out), 12 LOAD (in), 13 CLK (in), 14 SEG A (out), 15 SEG F (out), 16 SEG B (out), 17 SEG G (out), 18 ISET, 19 V+ (power), 20 SEG C (out), 21 SEG E (out), 22 SEG DP (out), 23 SEG D (out), 24 DOUT (out)

## MAX7219ERG
designator U?
Serially Interfaced, 8-Digit LED Display Driver; Published: 16-Jan-2001; LatestRevisionDate: 29-May-2009; LatestRevisionNote: Component Body Added.; DatasheetVersion: Jul-1997; PackageVersion: 1996; PackageReference: RG24; Publisher: Altium Limited; PackageDescription: DIP, 24-Pin, Row Spacing 7.62 mm, Pitch 2.54 mm; Code_JEDEC: MS-001-AF; ComponentLink1Description: Manufacturer Link; ComponentLink1URL: http://www.maxim-ic.com/; ComponentLink2Description: Datasheet; ComponentLink2URL: http://pdfserv.maxim-ic.com/en/ds/MAX7219-MAX7221.pdf
footprint RG24 (DIP, 24-Leads, Row Spacing 7.62mm, Pitch 2.54mm, Body 31.88x6.73mm)
3D model NG24 (DIP, 24-Pin, Row Spacing 7.62 mm, Pitch 2.54 mm)
pins: 1 DIN (in), 2 DIG0 (out), 3 DIG4 (out), 4 GND (power), 5 DIG6 (out), 6 DIG2 (out), 7 DIG3 (out), 8 DIG7 (out), 9 GND (power), 10 DIG5 (out), 11 DIG1 (out), 12 LOAD (in), 13 CLK (in), 14 SEG A (out), 15 SEG F (out), 16 SEG B (out), 17 SEG G (out), 18 ISET, 19 V+ (power), 20 SEG C (out), 21 SEG E (out), 22 SEG DP (out), 23 SEG D (out), 24 DOUT (out)

## MAX7219EWG
designator U?
Serially Interfaced, 8-Digit LED Display Driver; Published: 16-Jan-2001; LatestRevisionDate: 13-Apr-2006; LatestRevisionNote: IPC-7351 Footprint Added.; DatasheetVersion: Jul-1997; PackageReference: WSO24; Publisher: Altium Limited; PackageDescription: 24-Pin Small Outline Integrated Circuit 1.27 mm Pitch; ComponentLink1Description: Manufacturer Link; ComponentLink1URL: http://www.maxim-ic.com/; ComponentLink2Description: Datasheet; ComponentLink2URL: http://pdfserv.maxim-ic.com/en/ds/MAX7219-MAX7221.pdf
footprint WSO24_N (SOIC, 24-Leads, Body 15.4x7.5mm, Pitch 1.27mm, IPC Medium Density)
footprint WSO24_L (SOIC, 24-Leads, Body 15.4x7.5mm, Pitch 1.27mm, IPC High Density)
footprint WSO24_M (SOIC, 24-Leads, Body 15.4x7.5mm, Pitch 1.27mm, IPC Low Density)
3D model WSO24 (24-Pin Small Outline Integrated Circuit 1.27 mm Pitch)
pins: 1 DIN (in), 2 DIG0 (out), 3 DIG4 (out), 4 GND (power), 5 DIG6 (out), 6 DIG2 (out), 7 DIG3 (out), 8 DIG7 (out), 9 GND (power), 10 DIG5 (out), 11 DIG1 (out), 12 LOAD (in), 13 CLK (in), 14 SEG A (out), 15 SEG F (out), 16 SEG B (out), 17 SEG G (out), 18 ISET, 19 V+ (power), 20 SEG C (out), 21 SEG E (out), 22 SEG DP (out), 23 SEG D (out), 24 DOUT (out)

## MAX7221CNG
designator U?
Serially Interfaced, 8-Digit LED Display Driver; Note: The 8 digit drivers and the 7 segment drivers are high-impedance when turned off.; Published: 16-Jan-2001; LatestRevisionDate: 29-May-2009; LatestRevisionNote: Component Body Added.; DatasheetVersion: Jul-1997; PackageVersion: 1997; PackageReference: NG24A; Publisher: Altium Limited; PackageDescription: DIP, 24-Pin, Row Spacing 7.62 mm, Pitch 2.54 mm; Code_JEDEC: MS-001-AF; ComponentLink1Description: Manufacturer Link; ComponentLink1URL: http://www.maxim-ic.com/; ComponentLink2Description: Datasheet; ComponentLink2URL: http://pdfserv.maxim-ic.com/en/ds/MAX7219-MAX7221.pdf
footprint NG24A (DIP, 24-Leads, Row Spacing 7.62mm, Pitch 2.54mm, Body 30.55x6.99mm)
3D model NG24 (DIP, 24-Pin, Row Spacing 7.62 mm, Pitch 2.54 mm)
pins: 1 DIN (in), 2 DIG0 (hiz), 3 DIG4 (hiz), 4 GND (power), 5 DIG6 (hiz), 6 DIG2 (hiz), 7 DIG3 (hiz), 8 DIG7 (hiz), 9 GND (power), 10 DIG5 (hiz), 11 DIG1 (hiz), 12 ~{CS} (in), 13 CLK (in), 14 SEG A (hiz), 15 SEG F (hiz), 16 SEG B (hiz), 17 SEG G (hiz), 18 ISET, 19 V+ (power), 20 SEG C (hiz), 21 SEG E (hiz), 22 SEG DP (out), 23 SEG D (hiz), 24 DOUT (out)

## MAX7221CWG
designator U?
Serially Interfaced, 8-Digit LED Display Driver; Note: The 8 digit drivers and the 7 segment drivers are high-impedance when turned off.; Published: 16-Jan-2001; LatestRevisionDate: 13-Apr-2006; LatestRevisionNote: IPC-7351 Footprint Added.; DatasheetVersion: Jul-1997; PackageReference: WSO24; Publisher: Altium Limited; PackageDescription: 24-Pin Small Outline Integrated Circuit 1.27 mm Pitch; ComponentLink1Description: Manufacturer Link; ComponentLink1URL: http://www.maxim-ic.com/; ComponentLink2Description: Datasheet; ComponentLink2URL: http://pdfserv.maxim-ic.com/en/ds/MAX7219-MAX7221.pdf
footprint WSO24_N (SOIC, 24-Leads, Body 15.4x7.5mm, Pitch 1.27mm, IPC Medium Density)
footprint WSO24_L (SOIC, 24-Leads, Body 15.4x7.5mm, Pitch 1.27mm, IPC High Density)
footprint WSO24_M (SOIC, 24-Leads, Body 15.4x7.5mm, Pitch 1.27mm, IPC Low Density)
3D model WSO24 (24-Pin Small Outline Integrated Circuit 1.27 mm Pitch)
pins: 1 DIN (in), 2 DIG0 (hiz), 3 DIG4 (hiz), 4 GND (power), 5 DIG6 (hiz), 6 DIG2 (hiz), 7 DIG3 (hiz), 8 DIG7 (hiz), 9 GND (power), 10 DIG5 (hiz), 11 DIG1 (hiz), 12 ~{CS} (in), 13 CLK (in), 14 SEG A (hiz), 15 SEG F (hiz), 16 SEG B (hiz), 17 SEG G (hiz), 18 ISET, 19 V+ (power), 20 SEG C (hiz), 21 SEG E (hiz), 22 SEG DP (out), 23 SEG D (hiz), 24 DOUT (out)

## MAX7221ENG
designator U?
Serially Interfaced, 8-Digit LED Display Driver; Note: The 8 digit drivers and the 7 segment drivers are high-impedance when turned off.; Published: 16-Jan-2001; LatestRevisionDate: 29-May-2009; LatestRevisionNote: Component Body Added.; DatasheetVersion: Jul-1997; PackageVersion: 1997; PackageReference: NG24A; Publisher: Altium Limited; PackageDescription: DIP, 24-Pin, Row Spacing 7.62 mm, Pitch 2.54 mm; Code_JEDEC: MS-001-AF; ComponentLink1Description: Manufacturer Link; ComponentLink1URL: http://www.maxim-ic.com/; ComponentLink2Description: Datasheet; ComponentLink2URL: http://pdfserv.maxim-ic.com/en/ds/MAX7219-MAX7221.pdf
footprint NG24A (DIP, 24-Leads, Row Spacing 7.62mm, Pitch 2.54mm, Body 30.55x6.99mm)
3D model NG24 (DIP, 24-Pin, Row Spacing 7.62 mm, Pitch 2.54 mm)
pins: 1 DIN (in), 2 DIG0 (hiz), 3 DIG4 (hiz), 4 GND (power), 5 DIG6 (hiz), 6 DIG2 (hiz), 7 DIG3 (hiz), 8 DIG7 (hiz), 9 GND (power), 10 DIG5 (hiz), 11 DIG1 (hiz), 12 ~{CS} (in), 13 CLK (in), 14 SEG A (hiz), 15 SEG F (hiz), 16 SEG B (hiz), 17 SEG G (hiz), 18 ISET, 19 V+ (power), 20 SEG C (hiz), 21 SEG E (hiz), 22 SEG DP (out), 23 SEG D (hiz), 24 DOUT (out)

## MAX7221ERG
designator U?
Serially Interfaced, 8-Digit LED Display Driver; Note: The 8 digit drivers and the 7 segment drivers are high-impedance when turned off.; Published: 16-Jan-2001; LatestRevisionDate: 29-May-2009; LatestRevisionNote: Component Body Added.; DatasheetVersion: Jul-1997; PackageVersion: 1996; PackageReference: RG24; Publisher: Altium Limited; PackageDescription: DIP, 24-Pin, Row Spacing 7.62 mm, Pitch 2.54 mm; Code_JEDEC: MS-001-AF; ComponentLink1Description: Manufacturer Link; ComponentLink1URL: http://www.maxim-ic.com/; ComponentLink2Description: Datasheet; ComponentLink2URL: http://pdfserv.maxim-ic.com/en/ds/MAX7219-MAX7221.pdf
footprint RG24 (DIP, 24-Leads, Row Spacing 7.62mm, Pitch 2.54mm, Body 31.88x6.73mm)
3D model NG24 (DIP, 24-Pin, Row Spacing 7.62 mm, Pitch 2.54 mm)
pins: 1 DIN (in), 2 DIG0 (hiz), 3 DIG4 (hiz), 4 GND (power), 5 DIG6 (hiz), 6 DIG2 (hiz), 7 DIG3 (hiz), 8 DIG7 (hiz), 9 GND (power), 10 DIG5 (hiz), 11 DIG1 (hiz), 12 ~{CS} (in), 13 CLK (in), 14 SEG A (hiz), 15 SEG F (hiz), 16 SEG B (hiz), 17 SEG G (hiz), 18 ISET, 19 V+ (power), 20 SEG C (hiz), 21 SEG E (hiz), 22 SEG DP (out), 23 SEG D (hiz), 24 DOUT (out)

## MAX7221EWG
designator U?
Serially Interfaced, 8-Digit LED Display Driver; Note: The 8 digit drivers and the 7 segment drivers are high-impedance when turned off.; Published: 16-Jan-2001; LatestRevisionDate: 13-Apr-2006; LatestRevisionNote: IPC-7351 Footprint Added.; DatasheetVersion: Jul-1997; PackageReference: WSO24; Publisher: Altium Limited; PackageDescription: 24-Pin Small Outline Integrated Circuit 1.27 mm Pitch; ComponentLink1Description: Manufacturer Link; ComponentLink1URL: http://www.maxim-ic.com/; ComponentLink2Description: Datasheet; ComponentLink2URL: http://pdfserv.maxim-ic.com/en/ds/MAX7219-MAX7221.pdf
footprint WSO24_N (SOIC, 24-Leads, Body 15.4x7.5mm, Pitch 1.27mm, IPC Medium Density)
footprint WSO24_L (SOIC, 24-Leads, Body 15.4x7.5mm, Pitch 1.27mm, IPC High Density)
footprint WSO24_M (SOIC, 24-Leads, Body 15.4x7.5mm, Pitch 1.27mm, IPC Low Density)
3D model WSO24 (24-Pin Small Outline Integrated Circuit 1.27 mm Pitch)
pins: 1 DIN (in), 2 DIG0 (hiz), 3 DIG4 (hiz), 4 GND (power), 5 DIG6 (hiz), 6 DIG2 (hiz), 7 DIG3 (hiz), 8 DIG7 (hiz), 9 GND (power), 10 DIG5 (hiz), 11 DIG1 (hiz), 12 ~{CS} (in), 13 CLK (in), 14 SEG A (hiz), 15 SEG F (hiz), 16 SEG B (hiz), 17 SEG G (hiz), 18 ISET, 19 V+ (power), 20 SEG C (hiz), 21 SEG E (hiz), 22 SEG DP (out), 23 SEG D (hiz), 24 DOUT (out)